# Altium schematic symbol library Sensor_Humidity.SchLib: 13 symbols
Pins are listed as number, name and electrical type; pins without a type are passive.

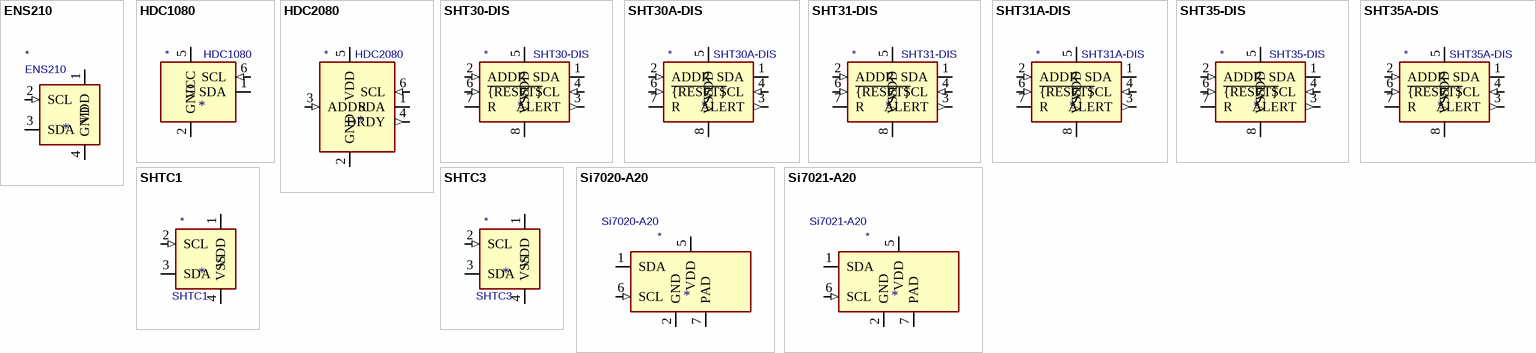
[diagram p0: symbols ENS210 to Si7021-A20]

## ENS210
designator *  value ENS210
ki_keywords: relative humidity temperature i2c pre-calibrated; ki_description: Relative Humidity and Temperature Sensor with I2C Interface; ki_fp_filters: AMS?QFN*EP*2x2mm*P0.95mm*; Footprint: Package_DFN_QFN:AMS_QFN-4-1EP_2x2mm_P0.95mm_EP0.7x1.6mm; Supplier: http://ams.com/eng/Products/Environmental-Sensors/Relative-Humidity-and-Temperature-Sensors/ENS210
footprint AMS_QFN-4-1EP_2x2mm_P0.95mm_EP0.7x1.6mm
pins: 1 VDD (power), 2 SCL (in), 3 SDA (io), 4 GND (power), 5 GND hidden

## HDC1080
designator *  value HDC1080
ki_keywords: Temperature Humidity Sensor; ki_description: Low Power,High Accuracy Digital Humidity Sensor with Temperature Sensor; ki_fp_filters: Package*SON:Texas*PWSON*N6*; Footprint: Package_SON:Texas_PWSON-N6; Supplier: http://www.ti.com/lit/ds/symlink/hdc1080.pdf
footprint Texas_PWSON-N6
pins: 1 SDA (io), 2 GND (power), 3 NC (in) hidden, 4 NC (in) hidden, 5 VCC (power), 6 SCL (in), 7 DAP (in) hidden

## HDC2080
designator *  value HDC2080
ki_keywords: Temperature Humidity Sensor; ki_description: Low Power Humidity and Temperature Sensor; ki_fp_filters: Package*SON:Texas*PWSON*N6*; Footprint: Package_SON:Texas_PWSON-N6; Supplier: http://www.ti.com/lit/ds/symlink/hdc2080.pdf
footprint Texas_PWSON-N6
pins: 1 SDA (io), 2 GND (power), 3 ADDR (in), 4 DRDY (out), 5 VDD (power), 6 SCL (in), 7 PAD (in) hidden

## SHT30-DIS
designator *  value SHT30-DIS
ki_keywords: digital temperature humidity i2c; ki_description: I²C humidity and temperature sensor, ±2%RH, ±0.2°C, DFN-8; ki_fp_filters: Sensirion*DFN*1EP*2.5x2.5mm*P0.5mm*; Footprint: Sensor_Humidity:Sensirion_DFN-8-1EP_2.5x2.5mm_P0.5mm_EP1.1x1.7mm; Supplier: https://www.sensirion.com/fileadmin/user_upload/customers/sensirion/Dokumente/2_Humidity_Sensors/Datasheets/Sensirion_Humidity_Sensors_SHT3x_Datasheet_digital.pdf
footprint Sensirion_DFN-8-1EP_2.5x2.5mm_P0.5mm_EP1.1x1.7mm
pins: 1 SDA (io), 2 ADDR (in), 3 ALERT (out), 4 SCL (in), 5 VDD (power), 6 ~{{RESET}} (in), 7 R, 8 VSS (power), 9 VSS hidden

## SHT30A-DIS
designator *  value SHT30A-DIS
ki_keywords: digital temperature humidity automotive i2c; ki_description: I²C humidity and temperature sensor, ±3%RH, ±0.3°C, AEQ-100, DFN-8; ki_fp_filters: Sensirion*DFN*1EP*2.5x2.5mm*P0.5mm*; Footprint: Sensor_Humidity:Sensirion_DFN-8-1EP_2.5x2.5mm_P0.5mm_EP1.1x1.7mm; Supplier: https://www.sensirion.com/fileadmin/user_upload/customers/sensirion/Dokumente/2_Humidity_Sensors/Datasheets/Sensirion_Humidity_Sensors_SHT3xA_Datasheet.pdf
footprint Sensirion_DFN-8-1EP_2.5x2.5mm_P0.5mm_EP1.1x1.7mm
pins: 1 SDA (io), 2 ADDR (in), 3 ALERT (out), 4 SCL (in), 5 VDD (power), 6 ~{{RESET}} (in), 7 R, 8 VSS (power), 9 VSS hidden

## SHT31-DIS
designator *  value SHT31-DIS
ki_keywords: digital temperature humidity i2c; ki_description: I²C humidity and temperature sensor, ±2%RH, ±0.2°C, DFN-8; ki_fp_filters: Sensirion*DFN*1EP*2.5x2.5mm*P0.5mm*; Footprint: Sensor_Humidity:Sensirion_DFN-8-1EP_2.5x2.5mm_P0.5mm_EP1.1x1.7mm; Supplier: https://www.sensirion.com/fileadmin/user_upload/customers/sensirion/Dokumente/2_Humidity_Sensors/Datasheets/Sensirion_Humidity_Sensors_SHT3x_Datasheet_digital.pdf
footprint Sensirion_DFN-8-1EP_2.5x2.5mm_P0.5mm_EP1.1x1.7mm
pins: 1 SDA (io), 2 ADDR (in), 3 ALERT (out), 4 SCL (in), 5 VDD (power), 6 ~{{RESET}} (in), 7 R, 8 VSS (power), 9 VSS hidden

## SHT31A-DIS
designator *  value SHT31A-DIS
ki_keywords: digital temperature humidity automotive i2c; ki_description: I²C humidity and temperature sensor, ±2%RH, ±0.3°C, AEQ-100, DFN-8; ki_fp_filters: Sensirion*DFN*1EP*2.5x2.5mm*P0.5mm*; Footprint: Sensor_Humidity:Sensirion_DFN-8-1EP_2.5x2.5mm_P0.5mm_EP1.1x1.7mm; Supplier: https://www.sensirion.com/fileadmin/user_upload/customers/sensirion/Dokumente/2_Humidity_Sensors/Datasheets/Sensirion_Humidity_Sensors_SHT3xA_Datasheet.pdf
footprint Sensirion_DFN-8-1EP_2.5x2.5mm_P0.5mm_EP1.1x1.7mm
pins: 1 SDA (io), 2 ADDR (in), 3 ALERT (out), 4 SCL (in), 5 VDD (power), 6 ~{{RESET}} (in), 7 R, 8 VSS (power), 9 VSS hidden

## SHT35-DIS
designator *  value SHT35-DIS
ki_keywords: digital temperature humidity i2c; ki_description: I²C humidity and temperature sensor, ±1.5%RH, ±0.1°C, DFN-8; ki_fp_filters: Sensirion*DFN*1EP*2.5x2.5mm*P0.5mm*; Footprint: Sensor_Humidity:Sensirion_DFN-8-1EP_2.5x2.5mm_P0.5mm_EP1.1x1.7mm; Supplier: https://www.sensirion.com/fileadmin/user_upload/customers/sensirion/Dokumente/2_Humidity_Sensors/Datasheets/Sensirion_Humidity_Sensors_SHT3x_Datasheet_digital.pdf
footprint Sensirion_DFN-8-1EP_2.5x2.5mm_P0.5mm_EP1.1x1.7mm
pins: 1 SDA (io), 2 ADDR (in), 3 ALERT (out), 4 SCL (in), 5 VDD (power), 6 ~{{RESET}} (in), 7 R, 8 VSS (power), 9 VSS hidden

## SHT35A-DIS
designator *  value SHT35A-DIS
ki_keywords: digital temperature humidity automotive i2c; ki_description: I²C humidity and temperature sensor, ±1.5%RH, ±0.2°C, AEQ-100, DFN-8; ki_fp_filters: Sensirion*DFN*1EP*2.5x2.5mm*P0.5mm*; Footprint: Sensor_Humidity:Sensirion_DFN-8-1EP_2.5x2.5mm_P0.5mm_EP1.1x1.7mm; Supplier: https://www.sensirion.com/fileadmin/user_upload/customers/sensirion/Dokumente/2_Humidity_Sensors/Datasheets/Sensirion_Humidity_Sensors_SHT3xA_Datasheet.pdf
footprint Sensirion_DFN-8-1EP_2.5x2.5mm_P0.5mm_EP1.1x1.7mm
pins: 1 SDA (io), 2 ADDR (in), 3 ALERT (out), 4 SCL (in), 5 VDD (power), 6 ~{{RESET}} (in), 7 R, 8 VSS (power), 9 VSS hidden

## SHTC1
designator *  value SHTC1
ki_keywords: Sensirion environment environmental measurement digital; ki_description: Humidity and Temperature Sensor, +/-3%RH, +/-0.3degC, I2C, 1.62-1.98V, DFN-4; ki_fp_filters: Sensirion*DFN*1EP*2x2mm*P1mm*EP0.7x1.6mm*; Footprint: Sensor_Humidity:Sensirion_DFN-4-1EP_2x2mm_P1mm_EP0.7x1.6mm; Supplier: https://www.sensirion.com/fileadmin/user_upload/customers/sensirion/Dokumente/0_Datasheets/Humidity/Sensirion_Humidity_Sensors_SHTC1_Datasheet.pdf
footprint Sensirion_DFN-4-1EP_2x2mm_P1mm_EP0.7x1.6mm
pins: 1 VDD (power), 2 SCL (in), 3 SDA (io), 4 VSS (power), 5 NC (in) hidden

## SHTC3
designator *  value SHTC3
ki_keywords: Sensirion environment environmental measurement digital; ki_description: Humidity and Temperature Sensor, +/-2%RH, +/-0.2degC, I2C, 1.62-3.6V, DFN-4; ki_fp_filters: Sensirion*DFN*1EP*2x2mm*P1mm*EP0.7x1.6mm*; Footprint: Sensor_Humidity:Sensirion_DFN-4-1EP_2x2mm_P1mm_EP0.7x1.6mm; Supplier: https://www.sensirion.com/fileadmin/user_upload/customers/sensirion/Dokumente/0_Datasheets/Humidity/Sensirion_Humidity_Sensors_SHTC3_Datasheet.pdf
footprint Sensirion_DFN-4-1EP_2x2mm_P1mm_EP0.7x1.6mm
pins: 1 VDD (power), 2 SCL (in), 3 SDA (io), 4 VSS (power), 5 NC (in) hidden

## Si7020-A20
designator *  value Si7020-A20
ki_keywords: I2C Humidity Temperature Sensor; ki_description: I2C Humidity and Temperature Sensor, DFN-6; ki_fp_filters: DFN*1EP*3x3mm*P1mm*; Footprint: Package_DFN_QFN:DFN-6-1EP_3x3mm_P1mm_EP1.5x2.4mm; Supplier: https://www.silabs.com/documents/public/data-sheets/Si7020-A20.pdf
footprint DFN-6-1EP_3x3mm_P1mm_EP1.5x2.4mm
pins: 1 SDA (io), 2 GND (power), 3 NC (in) hidden, 4 NC (in) hidden, 5 VDD (power), 6 SCL (in), 7 PAD

## Si7021-A20
designator *  value Si7021-A20
ki_keywords: I2C Humidity Temperature Sensor; ki_description: I2C Humidity and Temperature Sensor, DFN-6; ki_fp_filters: DFN*1EP*3x3mm*P1mm*; Footprint: Package_DFN_QFN:DFN-6-1EP_3x3mm_P1mm_EP1.5x2.4mm; Supplier: https://www.silabs.com/documents/public/data-sheets/Si7021-A20.pdf
footprint DFN-6-1EP_3x3mm_P1mm_EP1.5x2.4mm
pins: 1 SDA (io), 2 GND (power), 3 NC (in) hidden, 4 NC (in) hidden, 5 VDD (power), 6 SCL (in), 7 PAD